# Altium schematic symbol library Resistor_tmpl.SchLib: 11 symbols
Pins are listed as number, name and electrical type; pins without a type are passive.

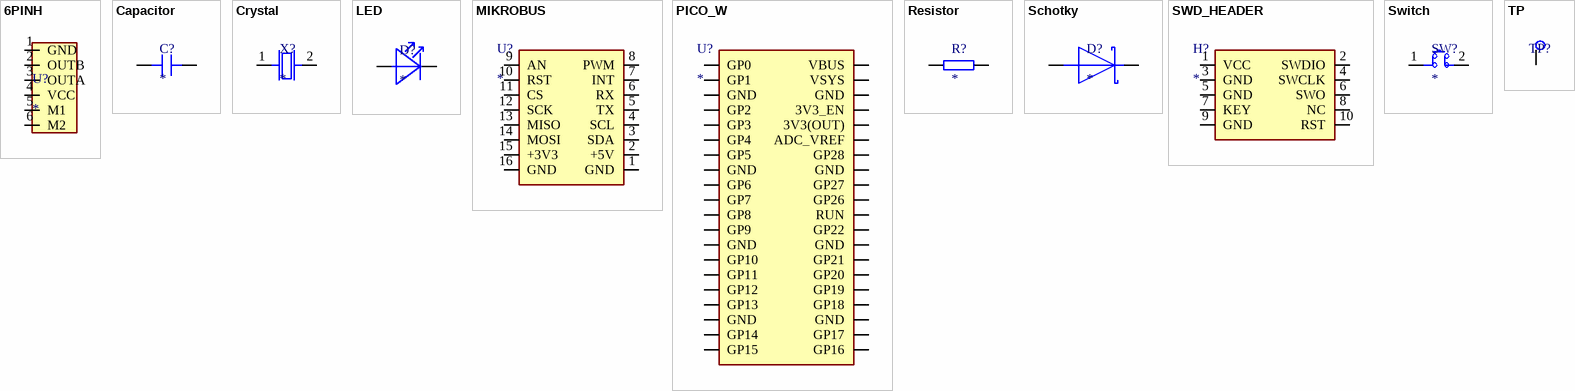
[diagram p0: symbols 6PINH to TP]

## 6PINH
designator U?
Value: *; HelpURL: *; MPN: *; Supplier: *; SupplierPartNumber: *
footprint HEADER6
pins: 1 GND (power), 2 OUTB, 3 OUTA, 4 VCC, 5 M1, 6 M2

## Capacitor
designator C?
Value: *; HelpURL: *; MPN: *; Supplier: *; SupplierPartNumber: *
pins: 1, 2

## Crystal
designator X?
Value: *; HelpURL: *; MPN: *; Supplier: *; SupplierPartNumber: *
pins: 1, 2

## LED
designator D?
Value: *; HelpURL: *; MPN: *; Supplier: *; SupplierPartNumber: *
pins: 1, 2

## MIKROBUS
designator U?
Value: *; HelpURL: *; MPN: *; Supplier: *; SupplierPartNumber: *
footprint MIKROBUS
pins: 1 GND, 2 +5V, 3 SDA, 4 SCL, 5 TX, 6 RX, 7 INT, 8 PWM, 9 AN, 10 RST, 11 CS, 12 SCK, 13 MISO, 14 MOSI, 15 +3V3, 16 GND

## PICO_W
designator U?
Value: *; HelpURL: *; MPN: *; Supplier: *; SupplierPartNumber: *
footprint PICO_W
pins: 1 GP16, 2 GP17, 3 GND, 4 GP18, 5 GP19, 6 GP20, 7 GP21, 8 GND, 9 GP22, 10 RUN, 11 GP26, 12 GP27, 13 GND, 14 GP28, 15 ADC_VREF, 16 3V3(OUT), 17 3V3_EN, 18 GND, 19 VSYS, 20 VBUS, 21 GP0, 22 GP1, 23 GND, 24 GP2, 25 GP3, 26 GP4, 27 GP5, 28 GND, 29 GP6, 30 GP7, 31 GP8, 32 GP9, 33 GND, 34 GP10, 35 GP11, 36 GP12, 37 GP13, 38 GND, 39 GP14, 40 GP15

## Resistor
designator R?
Value: *; HelpURL: *; MPN: *; Supplier: *; SupplierPartNumber: *
pins: 1, 2

## Schotky
designator D?
Value: *; HelpURL: *; MPN: *; Supplier: *; SupplierPartNumber: *
pins: 1, 2

## SWD_HEADER
designator H?
Value: *; HelpURL: *; MPN: *; Supplier: *; SupplierPartNumber: *
footprint SOP10
pins: 1 VCC (power), 2 SWDIO (io), 3 GND (power), 4 SWCLK (io), 5 GND (power), 6 SWO (io), 7 KEY (io), 8 NC (hiz), 9 GND (power), 10 RST (io)

## Switch
designator SW?
Value: *; HelpURL: *; MPN: *; Supplier: *; SupplierPartNumber: *
pins: 1, 2

## TP
designator TP?  (value not drawn)
Value: *; HelpURL: *; MPN: *; Supplier: *; SupplierPartNumber: *
footprint TestPoint
pins: 1